# Altium integrated library Renesas Microcontroller H8S.IntLib: 670 symbols (part 16 of 70)
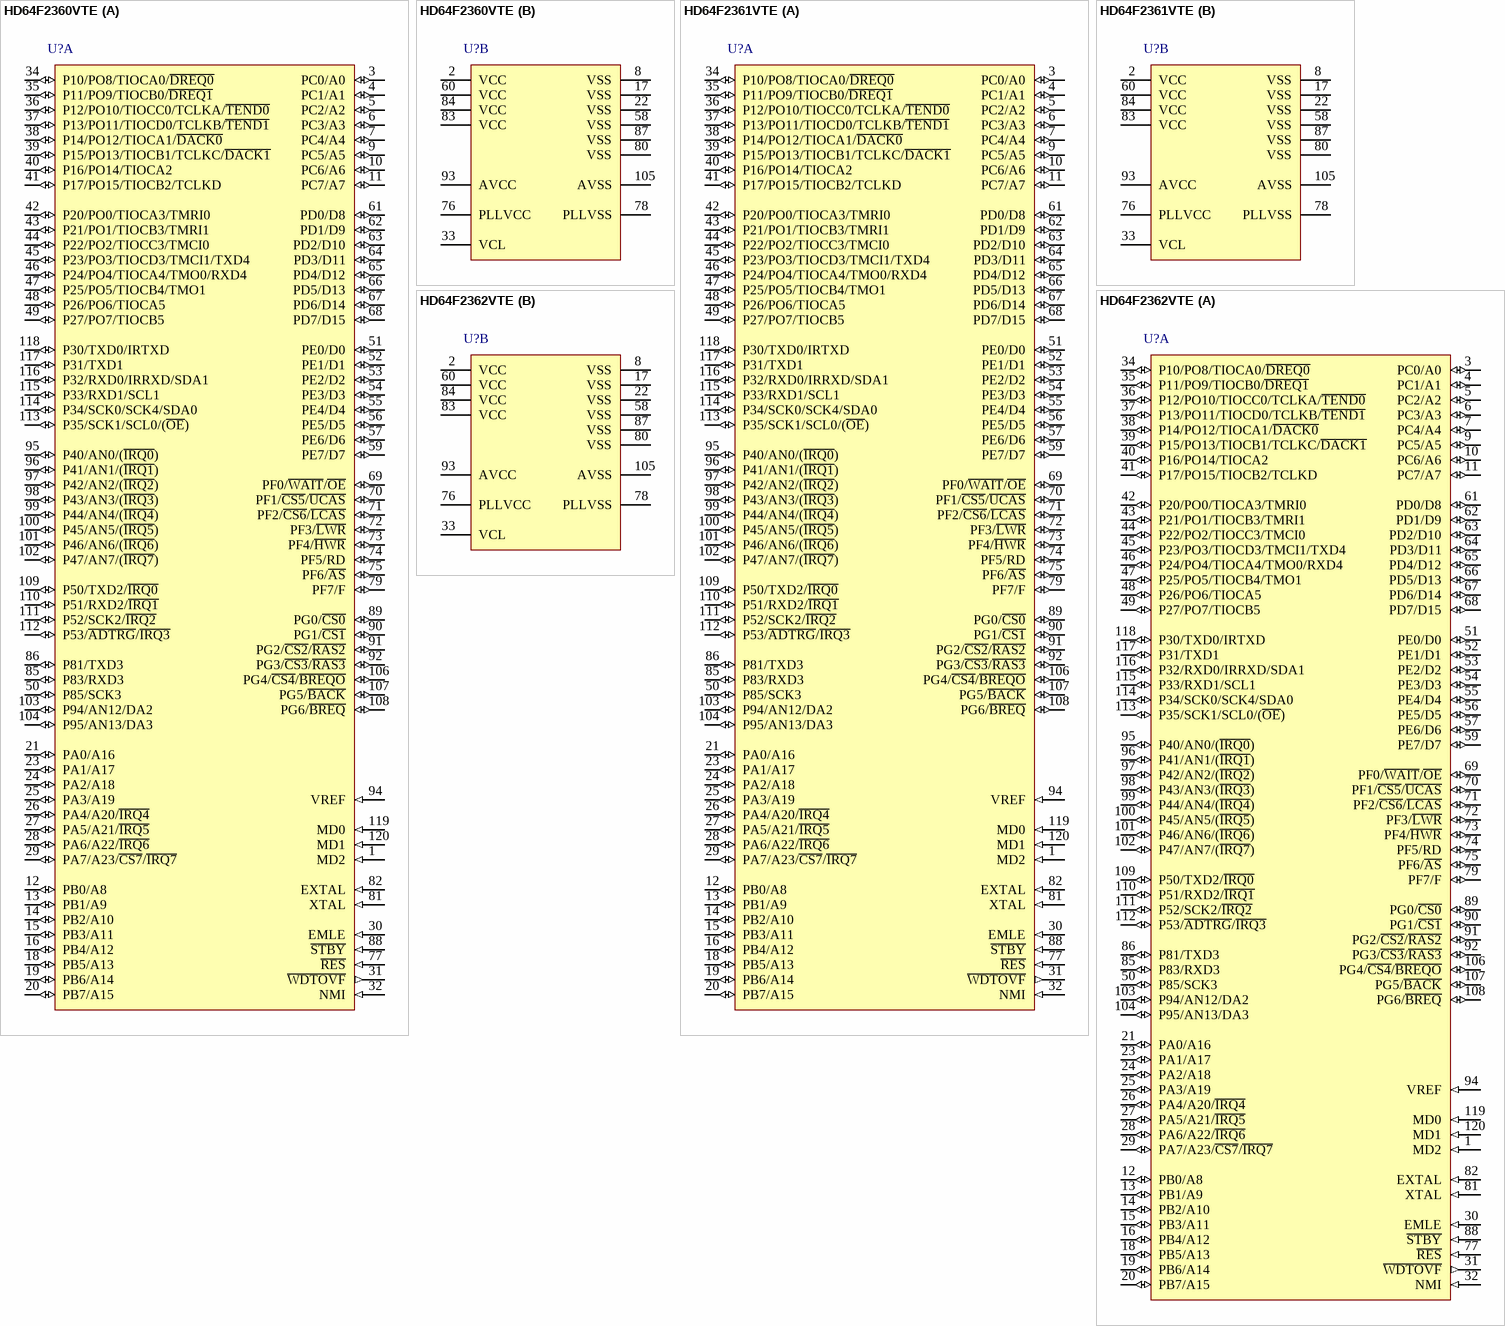
[diagram p352: symbols HD64F2360VTE to HD64F2362VTE]

## HD64F2361VTE
designator U?
Flash memory H8S/2300 Series, 2368 Group MCU, 256K ROM, 24K RAM, TFP-120 Pkg; Published: 28-Aug-2009; DatasheetVersion: Rev.6.00, Mar-2009; PackageVersion: Sep-2005; PackageReference: PTQP0120LA-A; Publisher: Altium Limited; PackageDescription: 120-Pin Plastic Thin QFP, 14 x 14 x 1.0 mm Body, 0.4 mm Pitch; Code_JEITA: P-TQFP120-14x14-0.40; ComponentLink1Description: Manufacturer Link; ComponentLink1URL: http://sg.renesas.com/fmwk.jsp?cnt=h8s_family_landing.jsp&fp=/products/mpumcu/h8s_family/; ComponentLink2Description: Datasheet; ComponentLink2URL: http://documentation.renesas.com/eng/products/mpumcu/rej09b0050_h8s2368.pdf; ComponentLink3Description: Packaging Specification; ComponentLink3URL: http://sg.renesas.com/media/products/common_info/package/pdf/ic/code/ptqp0120la_a.pdf
footprint PTQP0120LA-A_N (Thin QFP, 120-Leads, Body 14x14mm, Pitch 0.4mm, IPC Medium Density)
footprint PTQP0120LA-A_L (Thin QFP, 120-Leads, Body 14x14mm, Pitch 0.4mm, IPC High Density)
footprint PTQP0120LA-A_M (Thin QFP, 120-Leads, Body 14x14mm, Pitch 0.4mm, IPC Low Density)
part A pins: 1 MD2 (in), 3 PC0/A0 (io), 4 PC1/A1 (io), 5 PC2/A2 (io), 6 PC3/A3 (io), 7 PC4/A4 (io), 9 PC5/A5 (io), 10 PC6/A6 (io), 11 PC7/A7 (io), 12 PB0/A8 (io), 13 PB1/A9 (io), 14 PB2/A10 (io), 15 PB3/A11 (io), 16 PB4/A12 (io), 18 PB5/A13 (io), 19 PB6/A14 (io), 20 PB7/A15 (io), 21 PA0/A16 (io), 23 PA1/A17 (io), 24 PA2/A18 (io), 25 PA3/A19 (io), 26 PA4/A20/~{IRQ4} (io), 27 PA5/A21/~{IRQ5} (io), 28 PA6/A22/~{IRQ6} (io), 29 PA7/A23/~{CS7}/~{IRQ7} (io), 30 EMLE (in), 31 ~{WDTOVF} (out), 32 NMI (in), 34 P10/PO8/TIOCA0/~{DREQ0} (io), 35 P11/PO9/TIOCB0/~{DREQ1} (io), 36 P12/PO10/TIOCC0/TCLKA/~{TEND0} (io), 37 P13/PO11/TIOCD0/TCLKB/~{TEND1} (io), 38 P14/PO12/TIOCA1/~{DACK0} (io), 39 P15/PO13/TIOCB1/TCLKC/~{DACK1} (io), 40 P16/PO14/TIOCA2 (io), 41 P17/PO15/TIOCB2/TCLKD (io), 42 P20/PO0/TIOCA3/TMRI0 (io), 43 P21/PO1/TIOCB3/TMRI1 (io), 44 P22/PO2/TIOCC3/TMCI0 (io), 45 P23/PO3/TIOCD3/TMCI1/TXD4 (io), 46 P24/PO4/TIOCA4/TMO0/RXD4 (io), 47 P25/PO5/TIOCB4/TMO1 (io), 48 P26/PO6/TIOCA5 (io), 49 P27/PO7/TIOCB5 (io), 50 P85/SCK3 (io), 51 PE0/D0 (io), 52 PE1/D1 (io), 53 PE2/D2 (io), 54 PE3/D3 (io), 55 PE4/D4 (io), 56 PE5/D5 (io), 57 PE6/D6 (io), 59 PE7/D7 (io), 61 PD0/D8 (io), 62 PD1/D9 (io), 63 PD2/D10 (io), 64 PD3/D11 (io), 65 PD4/D12 (io), 66 PD5/D13 (io), 67 PD6/D14 (io), 68 PD7/D15 (io), 69 PF0/~{WAIT}/~{OE} (io), 70 PF1/~{CS5}/~{UCAS} (io), 71 PF2/~{CS6}/~{LCAS} (io), 72 PF3/~{LWR} (io), 73 PF4/~{HWR} (io), 74 PF5/RD (io), 75 PF6/~{AS} (io), 77 ~{RES} (in), 79 PF7/F (io), 81 XTAL (in), 82 EXTAL (in), 85 P83/RXD3 (io), 86 P81/TXD3 (io), 88 ~{STBY} (in), 89 PG0/~{CS0} (io), 90 PG1/~{CS1} (io), 91 PG2/~{CS2}/~{RAS2} (io), 92 PG3/~{CS3}/~{RAS3} (io), 94 VREF (in), 95 P40/AN0/(~{IRQ0}) (io), 96 P41/AN1/(~{IRQ1}) (io), 97 P42/AN2/(~{IRQ2}) (io), 98 P43/AN3/(~{IRQ3}) (io), 99 P44/AN4/(~{IRQ4}) (io), 100 P45/AN5/(~{IRQ5}) (io), 101 P46/AN6/(~{IRQ6}) (io), 102 P47/AN7/(~{IRQ7}) (io), 103 P94/AN12/DA2 (io), 104 P95/AN13/DA3 (io), 106 PG4/~{CS4}/~{BREQO} (io), 107 PG5/~{BACK} (io), 108 PG6/~{BREQ} (io), 109 P50/TXD2/~{IRQ0} (io), 110 P51/RXD2/~{IRQ1} (io), 111 P52/SCK2/~{IRQ2} (io), 112 P53/~{ADTRG}/~{IRQ3} (io), 113 P35/SCK1/SCL0/(~{OE}) (io), 114 P34/SCK0/SCK4/SDA0 (io), 115 P33/RXD1/SCL1 (io), 116 P32/RXD0/IRRXD/SDA1 (io), 117 P31/TXD1 (io), 118 P30/TXD0/IRTXD (io), 119 MD0 (in), 120 MD1 (in)
part B pins: 2 VCC (power), 8 VSS (power), 17 VSS (power), 22 VSS (power), 33 VCL, 58 VSS (power), 60 VCC (power), 76 PLLVCC (power), 78 PLLVSS (power), 80 VSS (power), 83 VCC (power), 84 VCC (power), 87 VSS (power), 93 AVCC (power), 105 AVSS (power)

## HD64F2362VTE
designator U?
Flash memory H8S/2300 Series, 2368 Group MCU, 256K ROM, 32K RAM, TFP-120 Pkg; Published: 28-Aug-2009; DatasheetVersion: Rev.6.00, Mar-2009; PackageVersion: Sep-2005; PackageReference: PTQP0120LA-A; Publisher: Altium Limited; PackageDescription: 120-Pin Plastic Thin QFP, 14 x 14 x 1.0 mm Body, 0.4 mm Pitch; Code_JEITA: P-TQFP120-14x14-0.40; ComponentLink1Description: Manufacturer Link; ComponentLink1URL: http://sg.renesas.com/fmwk.jsp?cnt=h8s_family_landing.jsp&fp=/products/mpumcu/h8s_family/; ComponentLink2Description: Datasheet; ComponentLink2URL: http://documentation.renesas.com/eng/products/mpumcu/rej09b0050_h8s2368.pdf; ComponentLink3Description: Packaging Specification; ComponentLink3URL: http://sg.renesas.com/media/products/common_info/package/pdf/ic/code/ptqp0120la_a.pdf
footprint PTQP0120LA-A_N (Thin QFP, 120-Leads, Body 14x14mm, Pitch 0.4mm, IPC Medium Density)
footprint PTQP0120LA-A_L (Thin QFP, 120-Leads, Body 14x14mm, Pitch 0.4mm, IPC High Density)
footprint PTQP0120LA-A_M (Thin QFP, 120-Leads, Body 14x14mm, Pitch 0.4mm, IPC Low Density)
part A pins: 1 MD2 (in), 3 PC0/A0 (io), 4 PC1/A1 (io), 5 PC2/A2 (io), 6 PC3/A3 (io), 7 PC4/A4 (io), 9 PC5/A5 (io), 10 PC6/A6 (io), 11 PC7/A7 (io), 12 PB0/A8 (io), 13 PB1/A9 (io), 14 PB2/A10 (io), 15 PB3/A11 (io), 16 PB4/A12 (io), 18 PB5/A13 (io), 19 PB6/A14 (io), 20 PB7/A15 (io), 21 PA0/A16 (io), 23 PA1/A17 (io), 24 PA2/A18 (io), 25 PA3/A19 (io), 26 PA4/A20/~{IRQ4} (io), 27 PA5/A21/~{IRQ5} (io), 28 PA6/A22/~{IRQ6} (io), 29 PA7/A23/~{CS7}/~{IRQ7} (io), 30 EMLE (in), 31 ~{WDTOVF} (out), 32 NMI (in), 34 P10/PO8/TIOCA0/~{DREQ0} (io), 35 P11/PO9/TIOCB0/~{DREQ1} (io), 36 P12/PO10/TIOCC0/TCLKA/~{TEND0} (io), 37 P13/PO11/TIOCD0/TCLKB/~{TEND1} (io), 38 P14/PO12/TIOCA1/~{DACK0} (io), 39 P15/PO13/TIOCB1/TCLKC/~{DACK1} (io), 40 P16/PO14/TIOCA2 (io), 41 P17/PO15/TIOCB2/TCLKD (io), 42 P20/PO0/TIOCA3/TMRI0 (io), 43 P21/PO1/TIOCB3/TMRI1 (io), 44 P22/PO2/TIOCC3/TMCI0 (io), 45 P23/PO3/TIOCD3/TMCI1/TXD4 (io), 46 P24/PO4/TIOCA4/TMO0/RXD4 (io), 47 P25/PO5/TIOCB4/TMO1 (io), 48 P26/PO6/TIOCA5 (io), 49 P27/PO7/TIOCB5 (io), 50 P85/SCK3 (io), 51 PE0/D0 (io), 52 PE1/D1 (io), 53 PE2/D2 (io), 54 PE3/D3 (io), 55 PE4/D4 (io), 56 PE5/D5 (io), 57 PE6/D6 (io), 59 PE7/D7 (io), 61 PD0/D8 (io), 62 PD1/D9 (io), 63 PD2/D10 (io), 64 PD3/D11 (io), 65 PD4/D12 (io), 66 PD5/D13 (io), 67 PD6/D14 (io), 68 PD7/D15 (io), 69 PF0/~{WAIT}/~{OE} (io), 70 PF1/~{CS5}/~{UCAS} (io), 71 PF2/~{CS6}/~{LCAS} (io), 72 PF3/~{LWR} (io), 73 PF4/~{HWR} (io), 74 PF5/RD (io), 75 PF6/~{AS} (io), 77 ~{RES} (in), 79 PF7/F (io), 81 XTAL (in), 82 EXTAL (in), 85 P83/RXD3 (io), 86 P81/TXD3 (io), 88 ~{STBY} (in), 89 PG0/~{CS0} (io), 90 PG1/~{CS1} (io), 91 PG2/~{CS2}/~{RAS2} (io), 92 PG3/~{CS3}/~{RAS3} (io), 94 VREF (in), 95 P40/AN0/(~{IRQ0}) (io), 96 P41/AN1/(~{IRQ1}) (io), 97 P42/AN2/(~{IRQ2}) (io), 98 P43/AN3/(~{IRQ3}) (io), 99 P44/AN4/(~{IRQ4}) (io), 100 P45/AN5/(~{IRQ5}) (io), 101 P46/AN6/(~{IRQ6}) (io), 102 P47/AN7/(~{IRQ7}) (io), 103 P94/AN12/DA2 (io), 104 P95/AN13/DA3 (io), 106 PG4/~{CS4}/~{BREQO} (io), 107 PG5/~{BACK} (io), 108 PG6/~{BREQ} (io), 109 P50/TXD2/~{IRQ0} (io), 110 P51/RXD2/~{IRQ1} (io), 111 P52/SCK2/~{IRQ2} (io), 112 P53/~{ADTRG}/~{IRQ3} (io), 113 P35/SCK1/SCL0/(~{OE}) (io), 114 P34/SCK0/SCK4/SDA0 (io), 115 P33/RXD1/SCL1 (io), 116 P32/RXD0/IRRXD/SDA1 (io), 117 P31/TXD1 (io), 118 P30/TXD0/IRTXD (io), 119 MD0 (in), 120 MD1 (in)
part B pins: 2 VCC (power), 8 VSS (power), 17 VSS (power), 22 VSS (power), 33 VCL, 58 VSS (power), 60 VCC (power), 76 PLLVCC (power), 78 PLLVSS (power), 80 VSS (power), 83 VCC (power), 84 VCC (power), 87 VSS (power), 93 AVCC (power), 105 AVSS (power)

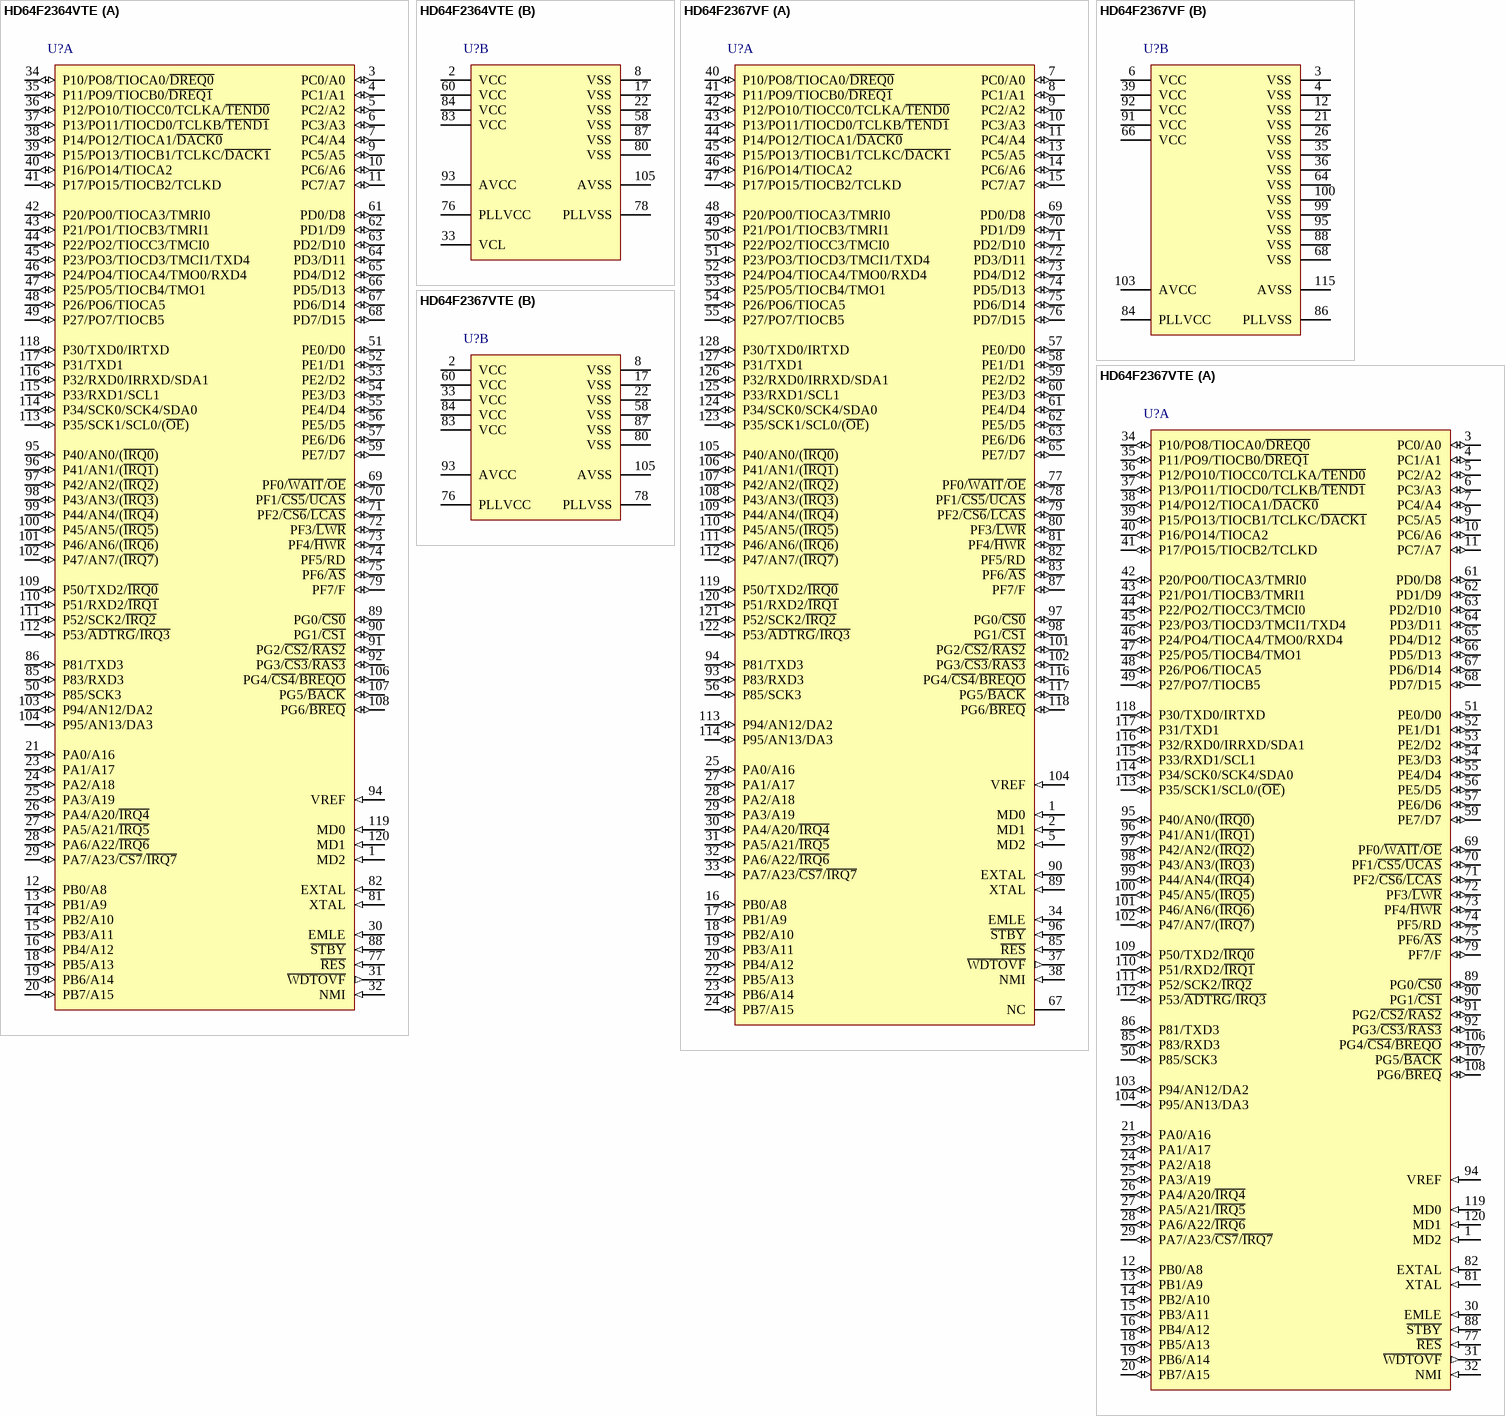
[diagram p57: symbols HD64F2364VTE to HD64F2367VTE]

## HD64F2364VTE
designator U?
Flash memory H8S/2300 Series, 2368 Group MCU, 384K ROM, 32K RAM, TFP-120 Pkg; Published: 28-Aug-2009; DatasheetVersion: Rev.6.00, Mar-2009; PackageVersion: Sep-2005; PackageReference: PTQP0120LA-A; Publisher: Altium Limited; PackageDescription: 120-Pin Plastic Thin QFP, 14 x 14 x 1.0 mm Body, 0.4 mm Pitch; Code_JEITA: P-TQFP120-14x14-0.40; ComponentLink1Description: Manufacturer Link; ComponentLink1URL: http://sg.renesas.com/fmwk.jsp?cnt=h8s_family_landing.jsp&fp=/products/mpumcu/h8s_family/; ComponentLink2Description: Datasheet; ComponentLink2URL: http://documentation.renesas.com/eng/products/mpumcu/rej09b0050_h8s2368.pdf; ComponentLink3Description: Packaging Specification; ComponentLink3URL: http://sg.renesas.com/media/products/common_info/package/pdf/ic/code/ptqp0120la_a.pdf
footprint PTQP0120LA-A_N (Thin QFP, 120-Leads, Body 14x14mm, Pitch 0.4mm, IPC Medium Density)
footprint PTQP0120LA-A_L (Thin QFP, 120-Leads, Body 14x14mm, Pitch 0.4mm, IPC High Density)
footprint PTQP0120LA-A_M (Thin QFP, 120-Leads, Body 14x14mm, Pitch 0.4mm, IPC Low Density)
part A pins: 1 MD2 (in), 3 PC0/A0 (io), 4 PC1/A1 (io), 5 PC2/A2 (io), 6 PC3/A3 (io), 7 PC4/A4 (io), 9 PC5/A5 (io), 10 PC6/A6 (io), 11 PC7/A7 (io), 12 PB0/A8 (io), 13 PB1/A9 (io), 14 PB2/A10 (io), 15 PB3/A11 (io), 16 PB4/A12 (io), 18 PB5/A13 (io), 19 PB6/A14 (io), 20 PB7/A15 (io), 21 PA0/A16 (io), 23 PA1/A17 (io), 24 PA2/A18 (io), 25 PA3/A19 (io), 26 PA4/A20/~{IRQ4} (io), 27 PA5/A21/~{IRQ5} (io), 28 PA6/A22/~{IRQ6} (io), 29 PA7/A23/~{CS7}/~{IRQ7} (io), 30 EMLE (in), 31 ~{WDTOVF} (out), 32 NMI (in), 34 P10/PO8/TIOCA0/~{DREQ0} (io), 35 P11/PO9/TIOCB0/~{DREQ1} (io), 36 P12/PO10/TIOCC0/TCLKA/~{TEND0} (io), 37 P13/PO11/TIOCD0/TCLKB/~{TEND1} (io), 38 P14/PO12/TIOCA1/~{DACK0} (io), 39 P15/PO13/TIOCB1/TCLKC/~{DACK1} (io), 40 P16/PO14/TIOCA2 (io), 41 P17/PO15/TIOCB2/TCLKD (io), 42 P20/PO0/TIOCA3/TMRI0 (io), 43 P21/PO1/TIOCB3/TMRI1 (io), 44 P22/PO2/TIOCC3/TMCI0 (io), 45 P23/PO3/TIOCD3/TMCI1/TXD4 (io), 46 P24/PO4/TIOCA4/TMO0/RXD4 (io), 47 P25/PO5/TIOCB4/TMO1 (io), 48 P26/PO6/TIOCA5 (io), 49 P27/PO7/TIOCB5 (io), 50 P85/SCK3 (io), 51 PE0/D0 (io), 52 PE1/D1 (io), 53 PE2/D2 (io), 54 PE3/D3 (io), 55 PE4/D4 (io), 56 PE5/D5 (io), 57 PE6/D6 (io), 59 PE7/D7 (io), 61 PD0/D8 (io), 62 PD1/D9 (io), 63 PD2/D10 (io), 64 PD3/D11 (io), 65 PD4/D12 (io), 66 PD5/D13 (io), 67 PD6/D14 (io), 68 PD7/D15 (io), 69 PF0/~{WAIT}/~{OE} (io), 70 PF1/~{CS5}/~{UCAS} (io), 71 PF2/~{CS6}/~{LCAS} (io), 72 PF3/~{LWR} (io), 73 PF4/~{HWR} (io), 74 PF5/RD (io), 75 PF6/~{AS} (io), 77 ~{RES} (in), 79 PF7/F (io), 81 XTAL (in), 82 EXTAL (in), 85 P83/RXD3 (io), 86 P81/TXD3 (io), 88 ~{STBY} (in), 89 PG0/~{CS0} (io), 90 PG1/~{CS1} (io), 91 PG2/~{CS2}/~{RAS2} (io), 92 PG3/~{CS3}/~{RAS3} (io), 94 VREF (in), 95 P40/AN0/(~{IRQ0}) (io), 96 P41/AN1/(~{IRQ1}) (io), 97 P42/AN2/(~{IRQ2}) (io), 98 P43/AN3/(~{IRQ3}) (io), 99 P44/AN4/(~{IRQ4}) (io), 100 P45/AN5/(~{IRQ5}) (io), 101 P46/AN6/(~{IRQ6}) (io), 102 P47/AN7/(~{IRQ7}) (io), 103 P94/AN12/DA2 (io), 104 P95/AN13/DA3 (io), 106 PG4/~{CS4}/~{BREQO} (io), 107 PG5/~{BACK} (io), 108 PG6/~{BREQ} (io), 109 P50/TXD2/~{IRQ0} (io), 110 P51/RXD2/~{IRQ1} (io), 111 P52/SCK2/~{IRQ2} (io), 112 P53/~{ADTRG}/~{IRQ3} (io), 113 P35/SCK1/SCL0/(~{OE}) (io), 114 P34/SCK0/SCK4/SDA0 (io), 115 P33/RXD1/SCL1 (io), 116 P32/RXD0/IRRXD/SDA1 (io), 117 P31/TXD1 (io), 118 P30/TXD0/IRTXD (io), 119 MD0 (in), 120 MD1 (in)
part B pins: 2 VCC (power), 8 VSS (power), 17 VSS (power), 22 VSS (power), 33 VCL, 58 VSS (power), 60 VCC (power), 76 PLLVCC (power), 78 PLLVSS (power), 80 VSS (power), 83 VCC (power), 84 VCC (power), 87 VSS (power), 93 AVCC (power), 105 AVSS (power)